# Altium footprint library Thermocoupler.PCBLIB: 1 footprints
Each footprint in its own frame and in the unit in brackets; x right, y up, seen from the top. Pads: shape width x height; smd on the part's side, far side on the other; paste and mask are expansions set on the pad; w line width, h text height; cw(c..) or ccw(c..) is an arc to the next point about the centre after c.
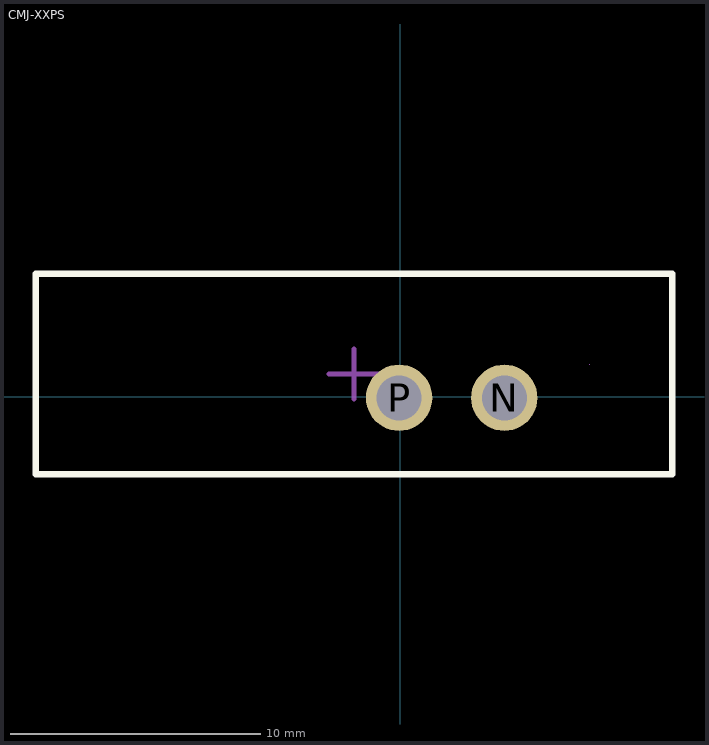
[diagram p0: the footprint, top view; thin cyan lines are the x and y axes]

## CMJ-XXPS [mm]
pads (2):
  round 2.65 hole 1.8: N(4.15,-0.05) P(-0.05,-0.05)
Top Overlay:
  lines w0.254: -14.55,-3.1 10.85,-3.1 10.85,4.9 -14.55,4.9 -14.55,-3.1
Top Assembly:
  lines w0.2: -14.55,-3.1 -14.55,4.9 10.85,4.9 10.85,-3.1 -14.55,-3.1
Top Courtyard:
  lines w0.2: -14.55,-3.1 -14.55,4.9 10.85,4.9 10.85,-3.1 -14.55,-3.1
Top Designator:
  text ".Designator" at -10.025,0.3 h0.76
Top Component Center:
  lines w0.2: -2.85,0.9 -0.85,0.9 ; -1.85,-0.1 -1.85,1.9
Mechanical 15:
  lines w0.003: 7.56,1.279 7.56,1.28
3D body "CMJ-xxPS.stp": height 16, standoff -4.05, extent -14.55,-3.1 10.85,4.9